# EAGLE library part HEF4021BP (library NXP_By_element14_Batch_1)
8-bit static shift register
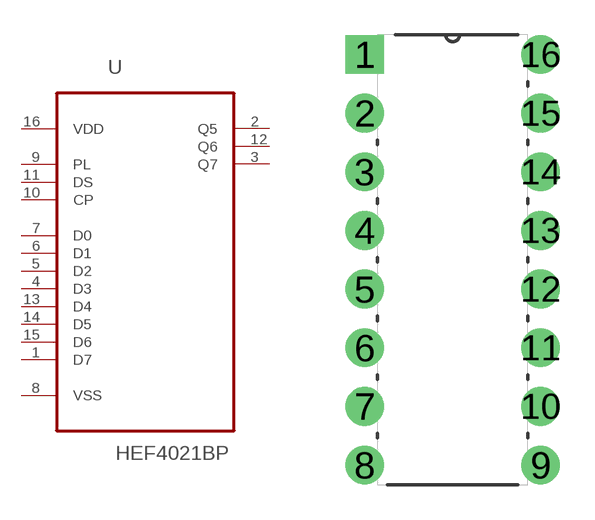
[diagram p246: symbol with the pads of DIP254P762X420-16; footprint DIP254P762X420-16]

Designator prefix U

## HEF4021BP (MPN: HEF4021BP; OC_FARNELL: 384800; OC_NEWARK: 10WX5409; P1I: o; PACKAGE: DIP-16; SUPPLIER: NXP)  [DIP254P762X420-16]
1  D7  in
2  Q5  out
3  Q7  out
4  D3  in
5  D2  in
6  D1  in
7  D0  in
8  VSS  pas
9  PL  in
10  CP  in
11  DS  in
12  Q6  out
13  D4  in
14  D5  in
15  D6  in
16  VDD  pwr

## Footprint DIP254P762X420-16 (pad centres in mm)
drill 1.118 square: 1 -7.62,17.78
drill 1.118: 2 -7.62,15.24; 3 -7.62,12.7; 4 -7.62,10.16; 5 -7.62,7.62; 6 -7.62,5.08; 7 -7.62,2.54; 8 -7.62,0; 9 0,0; 10 0,2.54; 11 0,5.08; 12 0,7.62; 13 0,10.16; 14 0,12.7; 15 0,15.24; 16 0,17.78